# Altium footprint library XBLW_DIP18.PcbLib: 1 footprints
Each footprint in its own frame and in the unit in brackets; x right, y up, seen from the top. Pads: shape width x height; smd on the part's side, far side on the other; paste and mask are expansions set on the pad; w line width, h text height; cw(c..) or ccw(c..) is an arc to the next point about the centre after c.
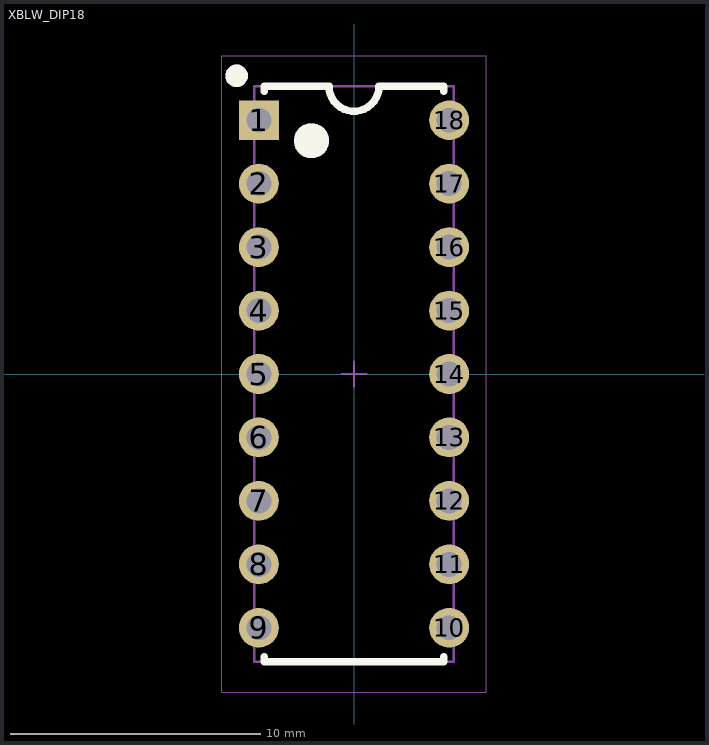
[diagram p0: the footprint, top view; thin cyan lines are the x and y axes]

## XBLW_DIP18 [mm] "XBLW_DIP18"
height 5.08
pads (18):
  rect 1.6x1.6 hole 1 mask+0.05: 1(-3.81,10.16)
  round 1.6 hole 1 mask+0.05: 2(-3.81,7.62) 3(-3.81,5.08) 4(-3.81,2.54) 5(-3.81,0) 6(-3.81,-2.54) 7(-3.81,-5.08) 8(-3.81,-7.62) 9(-3.81,-10.16) 10(3.81,-10.16) 11(3.81,-7.62) 12(3.81,-5.08) 13(3.81,-2.54) 14(3.81,0) 15(3.81,2.54) 16(3.81,5.08) 17(3.81,7.62) 18(3.81,10.16)
Top Overlay:
  circle w0.8: c-1.7,9.34 r0.3
  circle w0.5: c-4.7,11.94 r0.2
  lines w0.3: -3.595,-11.32 -3.595,-11.52 3.595,-11.52 3.595,-11.32 ; -3.595,11.32 -3.595,11.52 -1,11.52 ccw(c0,11.52) 1,11.52 3.595,11.52 3.595,11.32
Mechanical 13:
  circle w0.8: c-1.7,9.34 r0.3
  circle w0.5: c-4.7,11.94 r0.2
  lines w0.1: -4,-11.52 4,-11.52 4,11.52 -4,11.52 -4,-11.52
Mechanical 15:
  lines w0.05: -5.3,-12.74 -5.3,12.74 5.3,12.74 5.3,-12.74 -5.3,-12.74
  lines w0.1: -0.5,0 0.5,0 ; 0,-0.5 0,0.5
3D body "XBLW_DIP18.step": height 4.14, standoff -3.21, extent -4.568,-11.29 4.568,11.29